# EAGLE library part ESP32-DEVKIT-C (library esp-wroom-32)
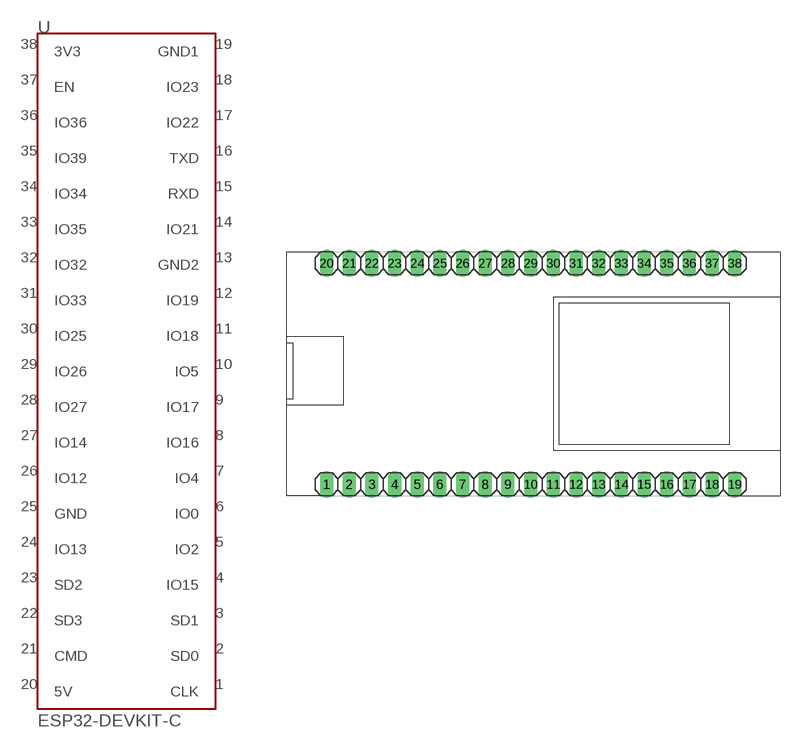
[diagram p0: symbol with the pads of ESP32; footprint ESP32]

Designator prefix U

## ESP32-DEVKIT-C  [ESP32]
1  CLK  nc
2  SD0  nc
3  SD1  nc
4  IO15  out
5  IO2  out
6  IO0  out
7  IO4  out
8  IO16
9  IO17
10  IO5  out
11  IO18
12  IO19
13  GND2  pwr
14  IO21
15  RXD  nc
16  TXD  nc
17  IO22
18  IO23
19  GND1  pwr
20  5V  pwr
21  CMD  nc
22  SD3  nc
23  SD2  nc
24  IO13
25  GND  pwr
26  IO12  out
27  IO14
28  IO27
29  IO26
30  IO25
31  IO33
32  IO32
33  IO35  in
34  IO34  in
35  IO39  in
36  IO36  in
37  EN
38  3V3  pwr

## Footprint ESP32 (pad centres in mm)
PIN HEADER
drill 1.016 long: 1 -22.86,0; 2 -20.32,0; 3 -17.78,0; 4 -15.24,0; 5 -12.7,0; 6 -10.16,0; 7 -7.62,0; 8 -5.08,0; 9 -2.54,0; 10 0,0; 11 2.54,0; 12 5.08,0; 13 7.62,0; 14 10.16,0; 15 12.7,0; 16 15.24,0; 17 17.78,0; 18 20.32,0; 19 22.86,0; 20 -22.86,24.765; 21 -20.32,24.765; 22 -17.78,24.765; 23 -15.24,24.765; 24 -12.7,24.765; 25 -10.16,24.765; 26 -7.62,24.765; 27 -5.08,24.765; 28 -2.54,24.765; 29 0,24.765; 30 2.54,24.765; 31 5.08,24.765; 32 7.62,24.765; 33 10.16,24.765; 34 12.7,24.765; 35 15.24,24.765; 36 17.78,24.765; 37 20.32,24.765; 38 22.86,24.765